# Altium footprint library MyPcbLib.PcbLib: 5 footprints
Each footprint in its own frame and in the unit in brackets; x right, y up, seen from the top. Pads: shape width x height; smd on the part's side, far side on the other; paste and mask are expansions set on the pad; w line width, h text height; cw(c..) or ccw(c..) is an arc to the next point about the centre after c.
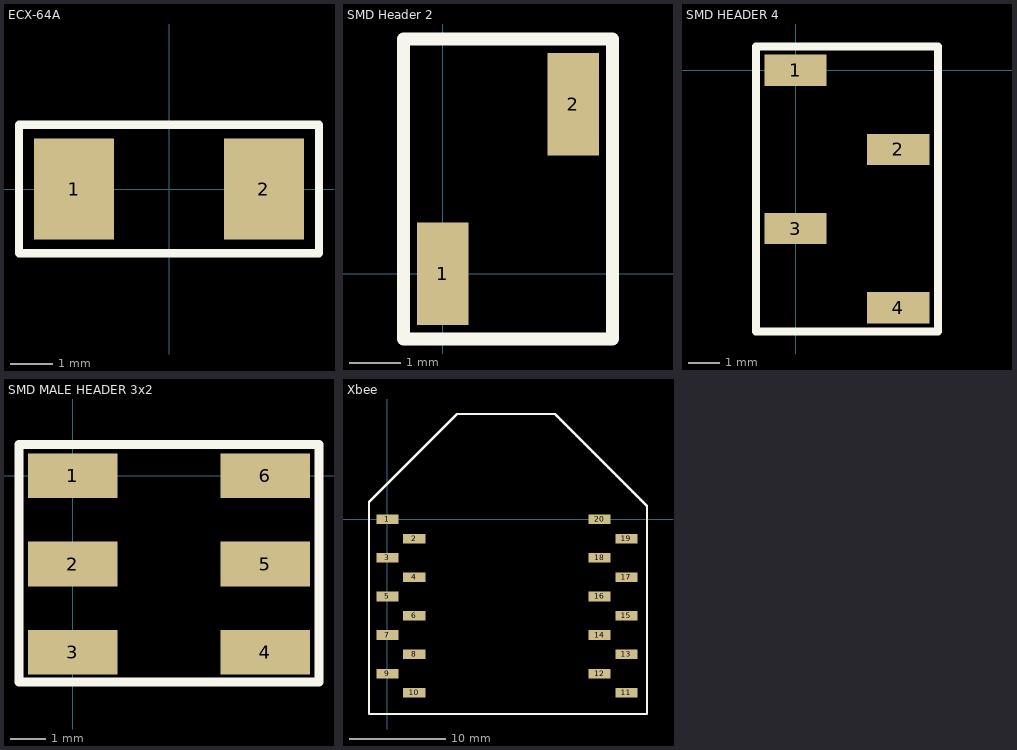
[diagram p0: the footprints below, top view; thin cyan lines are the x and y axes]

## ECX-64A [mm]
pads (2):
  rect 1.9x2.4 smd: 1(-2.25,0) 2(2.25,0)
Top Overlay:
  lines w0.2: -3.556,-1.524 3.556,-1.524 3.556,1.524 -3.556,1.524 -3.556,-0.856 -3.556,-1.524

## SMD Header 2 [mm]
pads (2):
  rect 1x2 smd: 1(0,0) 2(2.54,3.3)
Top Overlay:
  lines w0.254: -0.762,-1.27 -0.762,4.572 3.302,4.572 3.302,-1.27 -0.762,-1.27

## SMD HEADER 4 [mm]
pads (4):
  rect 2x1 smd: 1(0,0) 2(3.3,-2.54) 3(0,-5.08) 4(3.3,-7.62)
Top Overlay:
  lines w0.254: -1.27,-8.382 -1.27,0.762 4.572,0.762 4.572,-8.382 -1.27,-8.382

## SMD MALE HEADER 3x2 [mm]
pads (6):
  rect 2.54x1.27 smd: 1(0,0) 2(0,-2.5) 3(0,-5) 4(5.46,-5) 5(5.46,-2.5) 6(5.46,0)
Top Overlay:
  lines w0.254: -1.524,-5.842 6.985,-5.842 6.985,0.889 -1.524,0.889 -1.524,-5.842

## Xbee [mm]
pads (20):
  rect 2.29x1 smd: 1(0,0) 2(2.79,-2) 3(0,-4) 4(2.79,-6) 5(0,-8) 6(2.79,-10) 7(0,-12) 8(2.79,-14) 9(0,-16) 10(2.79,-18) 11(24.79,-18) 12(22,-16) 13(24.79,-14) 14(22,-12) 15(24.79,-10) 16(22,-8) 17(24.79,-6) 18(22,-4) 19(24.79,-2) 20(22,0)
Top Overlay:
  lines w0.254: -1.905,-20.193 -1.905,1.778 7.239,10.922 17.399,10.922 26.924,1.397 26.924,-20.193 -1.905,-20.193